# Altium schematic symbol library Trans_Infineon_IRLML6402TRPBF.SchLib: 1 symbol
Pins are listed as number, name and electrical type; pins without a type are passive.

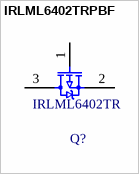
[diagram p0: symbol IRLML6402TRPBF]

## IRLML6402TRPBF
designator Q?  Model: IRLML6402TR  (hidden comment: *)
Manufacturer: Infineon Technologies; HelpURL: https://www.digikey.com/product-detail/en/infineon-technologies/IRLML6402TRPBF/IRLML6402PBFTR-ND/811437; Package: SOT-23
footprint Infineon_SOT23
pins: 1 G, 2 S, 3 D